# EAGLE library part MCP73831T-2ACI/MC (library circuit_tree)
IC
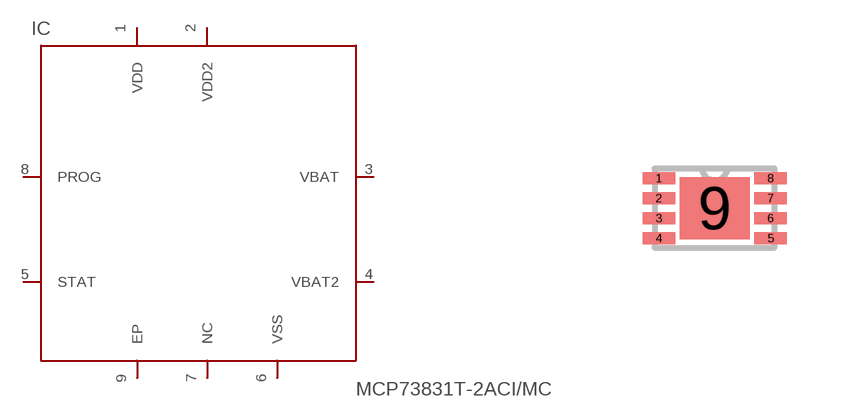
[diagram p7: symbol with the pads of DFN8_2X3MC; footprint DFN8_2X3MC]

Designator prefix IC

## MCP73831T-2ACI/MC  [DFN8_2X3MC]
1  VDD  pas
2  VDD2  pas
3  VBAT  pas
4  VBAT2  pas
5  STAT  pas
6  VSS  pas
7  NC  pas
8  PROG  pas
9  EP  pas

## Footprint DFN8_2X3MC (pad centres in mm)
smd 0.813 x 0.305: 1 -1.398,0.75; 2 -1.398,0.25; 3 -1.398,-0.25; 4 -1.398,-0.75; 5 1.398,-0.75; 6 1.398,-0.25; 7 1.398,0.25; 8 1.398,0.75
smd 1.753 x 1.549: 9 0,0